# EAGLE library part TSL2581 (library pimoroni-ics)
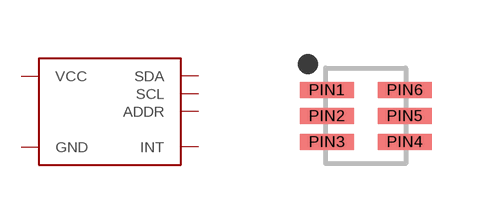
[diagram p18: symbol with the pads of FN-6-0.65MM; footprint FN-6-0.65MM]

Designator prefix -

## TSL2581  [FN-6-0.65MM]
PIN1  VCC
PIN2  ADDR
PIN3  GND
PIN4  SCL
PIN5  INT
PIN6  SDA

## Footprint FN-6-0.65MM (pad centres in mm)
smd 1.35 x 0.4: PIN1 -0.975,0.65; PIN2 -0.975,0; PIN3 -0.975,-0.65; PIN4 0.975,-0.65; PIN5 0.975,0; PIN6 0.975,0.65